# Altium integrated library DP83825I.IntLib: 1 symbol
Pins are listed as number, name and electrical type; pins without a type are passive.

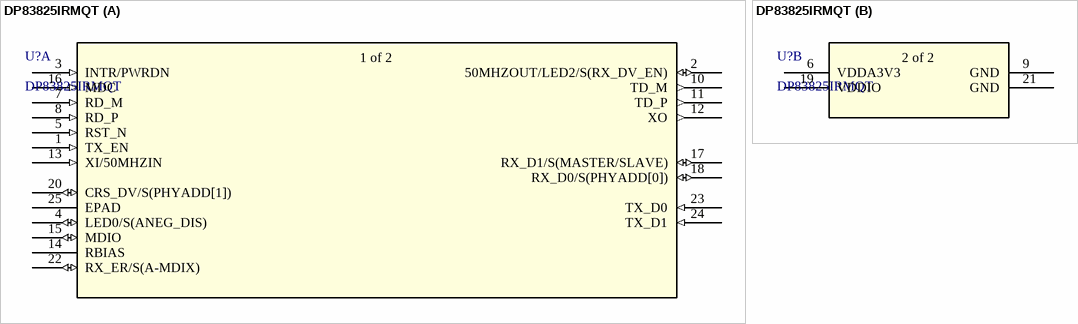
[diagram p0: symbol DP83825IRMQT]

## DP83825IRMQT
designator U?
No Description Available; SourceLibrary: TI_2019-11-11; Built_By: EMA_Jessica; Vendor: Texas Instruments; Copyright: Copyright (C) 2018 Accelerated Designs. All rights reserved; Manufacturer_Part_Number: DP83825IRMQT; RefDes: RefDes; Type: DEV
footprint RMQ24_3P1X3P1_TEX
part A pins: 1 TX_EN (in), 2 50MHZOUT/LED2/S(RX_DV_EN) (io), 3 INTR/PWRDN (in), 4 LED0/S(ANEG_DIS) (io), 5 RST_N (in), 7 RD_M (in), 8 RD_P (in), 10 TD_M (out), 11 TD_P (out), 12 XO (out), 13 XI/50MHZIN (in), 14 RBIAS, 15 MDIO (io), 16 MDC (in), 17 RX_D1/S(MASTER/SLAVE) (io), 18 RX_D0/S(PHYADD[0]) (io), 20 CRS_DV/S(PHYADD[1]) (io), 22 RX_ER/S(A-MDIX) (io), 23 TX_D0 (in), 24 TX_D1 (in), 25 EPAD
part B pins: 6 VDDA3V3 (power), 9 GND (power), 19 VDDIO (power), 21 GND (power)
part A text: 1 of 2
part B text: 2 of 2